# EAGLE library part OKOKOKEAGLELIBRARIES_74HC238 (library rose)
High-Speed CMOS Logic 3- to 8-Line Noninverting Decoder/Demultiplexer DATASHEET: http://www.ti.com/lit/ds/symlink/cd74hc138.pdf MPN: CD74HC238PWR
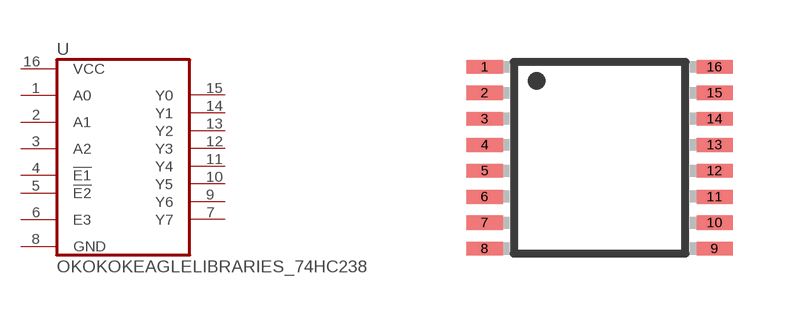
[diagram p0: symbol with the pads of OKOKOKEAGLELIBRARIES_TSSOP-16; footprint OKOKOKEAGLELIBRARIES_TSSOP-16]

Designator prefix U

## OKOKOKEAGLELIBRARIES_74HC238 (MPN: CD74HC238PWR)  [OKOKOKEAGLELIBRARIES_TSSOP-16]
1  A0
2  A1
3  A2
4  !E1
5  !E2
6  E3
7  Y7
8  GND
9  Y6
10  Y5
11  Y4
12  Y3
13  Y2
14  Y1
15  Y0
16  VCC

## Footprint OKOKOKEAGLELIBRARIES_TSSOP-16 (pad centres in mm)
smd 0.9 x 0.35: 1 -2.697,2.453; 2 -2.697,1.803; 3 -2.697,1.153; 4 -2.697,0.503; 5 -2.697,-0.147; 6 -2.697,-0.797; 7 -2.697,-1.447; 8 -2.697,-2.097; 9 3.053,-2.097; 10 3.053,-1.447; 11 3.053,-0.797; 12 3.053,-0.147; 13 3.053,0.503; 14 3.053,1.153; 15 3.053,1.803; 16 3.053,2.453